# EAGLE library part 61001418221 (library Wuerth_Elektronik_eiCan_Pin_&_Socked_Headers_v1.3)
WR-PHD 2.54mm SMT Pin Header, 10 Pins
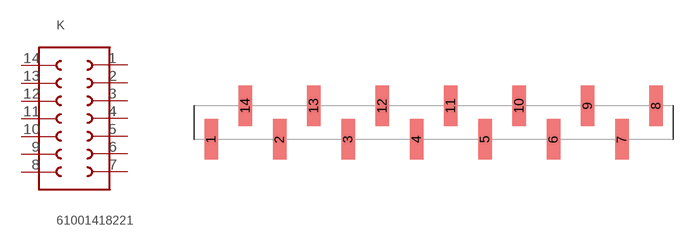
[diagram p78: symbol with the pads of 61001418221; footprint 61001418221]

Designator prefix K

## 61001418221  [61001418221]
1  14  pas
2  13  pas
3  12  pas
4  11  pas
5  10  pas
6  9  pas
7  8  pas
8  7  pas
9  6  pas
10  5  pas
11  4  pas
12  3  pas
13  2  pas
14  1  pas

## Footprint 61001418221 (pad centres in mm)
WR-PHD 2.54mm SMT Pin Header, 14 Pins
smd 1 x 3: 1 -16.51,-1.25; 2 -11.43,-1.25; 3 -6.35,-1.25; 4 -1.27,-1.25; 5 3.81,-1.25; 6 8.89,-1.25; 7 13.97,-1.25; 8 16.51,1.25; 9 11.43,1.25; 10 6.35,1.25; 11 1.27,1.25; 12 -3.81,1.25; 13 -8.89,1.25; 14 -13.97,1.25